# Altium integrated library Teensy3.0.IntLib: 11 symbols
Pins are listed as number, name and electrical type; pins without a type are passive.

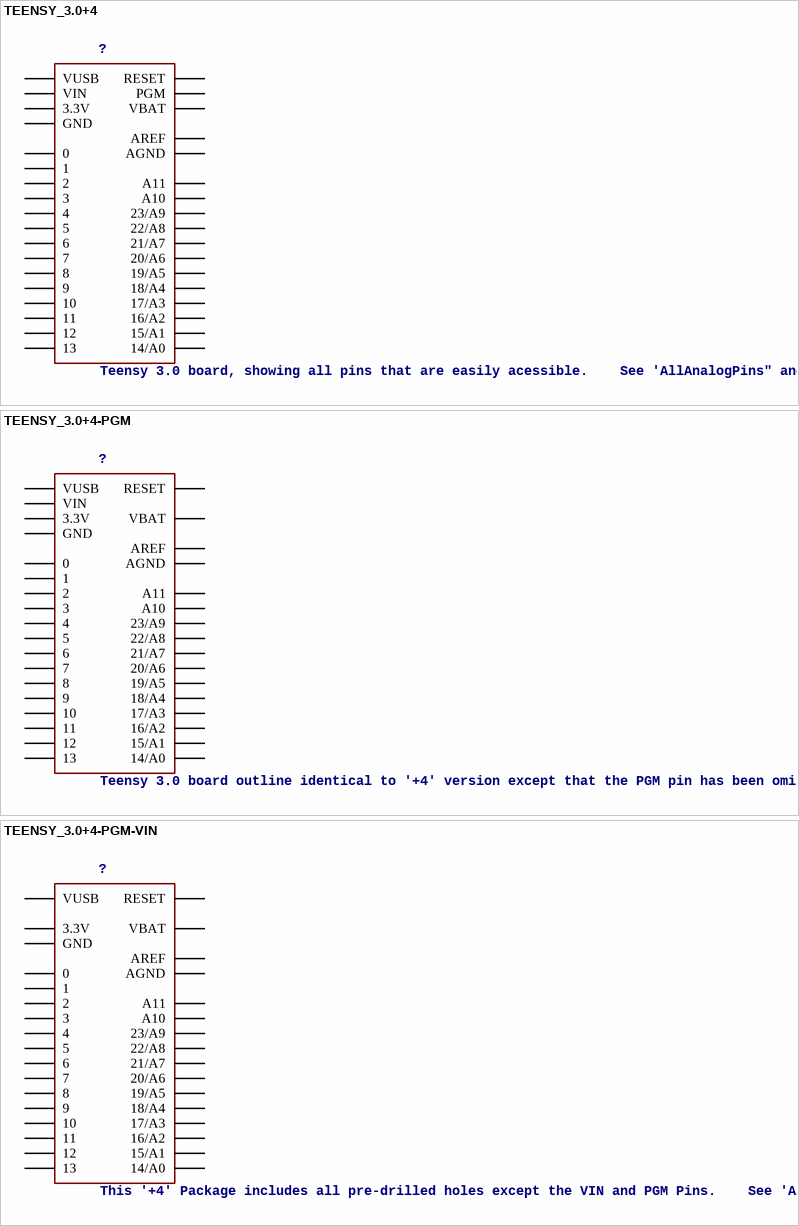
[diagram p0: symbols TEENSY_3.0+4 to TEENSY_3.0+4-PGM-VIN]

## TEENSY_3.0+4
designator ?, comment Teensy 3.0 board, showing all pins that are easily acessible.    See 'AllAnalogPins" and 'AllPins' packages for additional pin holes, as needed.   The 'Basic' package has fewer pins.
footprint TEENSY_3.0+4
pins: 0, 1, 2, 3, 3.3V 3.3V1 3.3V (power), 4, 5, 6, 7, 8, 9, 10, 11, 12, 13, 14/A0, 15/A1, 16/A2, 17/A3, 18/A4, 19/A5, 20/A6, 21/A7, 22/A8, 23/A9, A10, A11, AGND (power), AREF (power), GND GND1 GND (power), PGM, RESET, VBAT (power), VIN (power), VUSB (power)

## TEENSY_3.0+4-PGM
designator ?, comment Teensy 3.0 board outline identical to '+4' version except that the PGM pin has been omitted.   See 'AllAnalogPins" and 'AllPins' packages for additional pin holes, as needed.   The 'Basic' package has fewer pins
footprint TEENSY_3.0+4-PGM
pins: 0, 1, 2, 3, 3.3V 3.3V1 3.3V (power), 4, 5, 6, 7, 8, 9, 10, 11, 12, 13, 14/A0, 15/A1, 16/A2, 17/A3, 18/A4, 19/A5, 20/A6, 21/A7, 22/A8, 23/A9, A10, A11, AGND (power), AREF (power), GND GND1 GND (power), RESET, VBAT (power), VIN (power), VUSB (power)

## TEENSY_3.0+4-PGM-VIN
designator ?, comment This '+4' Package includes all pre-drilled holes except the VIN and PGM Pins.    See 'AllAnalogPins" and 'AllPins' packages for additional pin holes, as needed.   The 'Basic' package has fewer pins.
footprint TEENSY_3.0+4-PGM-VIN
pins: 0, 1, 2, 3, 3.3V 3.3V1 3.3V (power), 4, 5, 6, 7, 8, 9, 10, 11, 12, 13, 14/A0, 15/A1, 16/A2, 17/A3, 18/A4, 19/A5, 20/A6, 21/A7, 22/A8, 23/A9, A10, A11, AGND (power), AREF (power), GND GND1 GND (power), RESET, VBAT (power), VUSB (power)

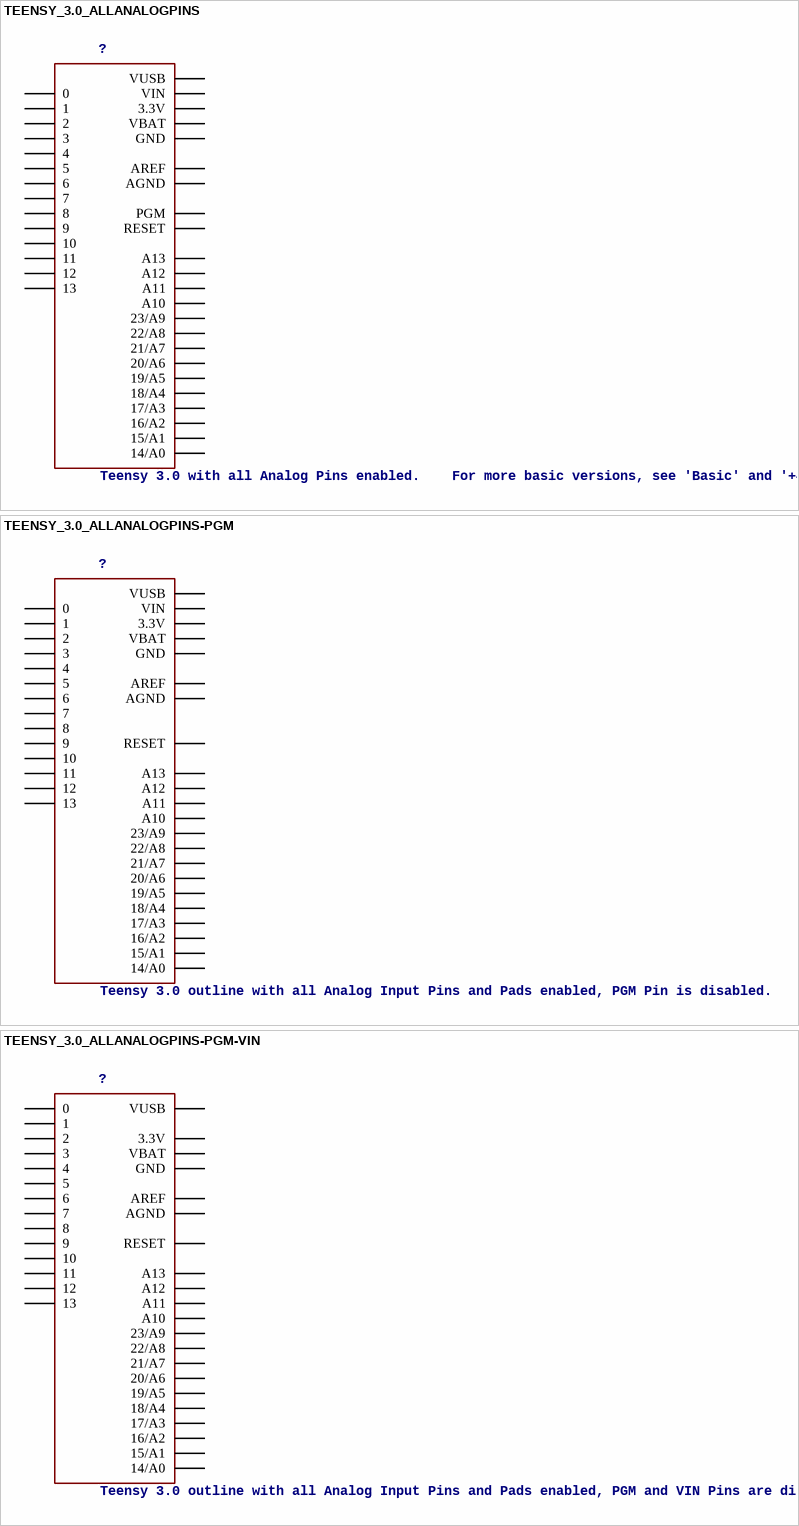
[diagram p1: symbols TEENSY_3.0_ALLANALOGPINS to TEENSY_3.0_ALLANALOGPINS-PGM-VIN]

## TEENSY_3.0_ALLANALOGPINS
designator ?, comment Teensy 3.0 with all Analog Pins enabled.    For more basic versions, see 'Basic' and '+4' while more pins are accessible in the 'AllPins' package. Requires the installation of a un-shrouded SMD header on the underside of the Teensy 3.0
footprint TEENSY_3.0_ALLANALOG
pins: 0, 1, 2, 3, 3.3V 3.3V1 3.3V2 3.3V (power), 4, 5, 6, 7, 8, 9, 10, 11, 12, 13, 14/A0, 15/A1, 16/A2, 17/A3, 18/A4, 19/A5, 20/A6, 21/A7, 22/A8, 23/A9, A10, A11, A12, A13, AGND (power), AREF (power), GND GND1 GND2 GND (power), PGM (power), RST RESET (power), VBAT (power), VIN (power), VUSB (power)

## TEENSY_3.0_ALLANALOGPINS-PGM
designator ?, comment Teensy 3.0 outline with all Analog Input Pins and Pads enabled, PGM Pin is disabled.   For more basic versions, see 'Basic' and '+4' while more pins are accessible in the 'AllPins' package.    Requires the installation of a un-shrouded SMD header on the underside of the Teensy 3.0
footprint TEENSY_3.0_ALLANALOG-PGM
pins: 0, 1, 2, 3, 3.3V 3.3V1 3.3V2 3.3V (power), 4, 5, 6, 7, 8, 9, 10, 11, 12, 13, 14/A0, 15/A1, 16/A2, 17/A3, 18/A4, 19/A5, 20/A6, 21/A7, 22/A8, 23/A9, A10, A11, A12, A13, AGND (power), AREF (power), GND GND1 GND2 GND (power), RST RESET (power), VBAT (power), VIN (power), VUSB (power)

## TEENSY_3.0_ALLANALOGPINS-PGM-VIN
designator ?, comment Teensy 3.0 outline with all Analog Input Pins and Pads enabled, PGM and VIN Pins are disabled.    For more basic versions, see 'Basic' and '+4' while more pins are accessible in the 'AllPins' package.   Requires the installation of a un-shrouded SMD header on the underside of the Teensy 3.0
footprint TEENSY_3.0_ALLANALOG-PGM-VIN
pins: 0, 1, 2, 3, 3.3V 3.3V1 3.3V2 3.3V (power), 4, 5, 6, 7, 8, 9, 10, 11, 12, 13, 14/A0, 15/A1, 16/A2, 17/A3, 18/A4, 19/A5, 20/A6, 21/A7, 22/A8, 23/A9, A10, A11, A12, A13, AGND (power), AREF (power), GND GND1 GND2 GND (power), RST RESET (power), VBAT (power), VUSB (power)

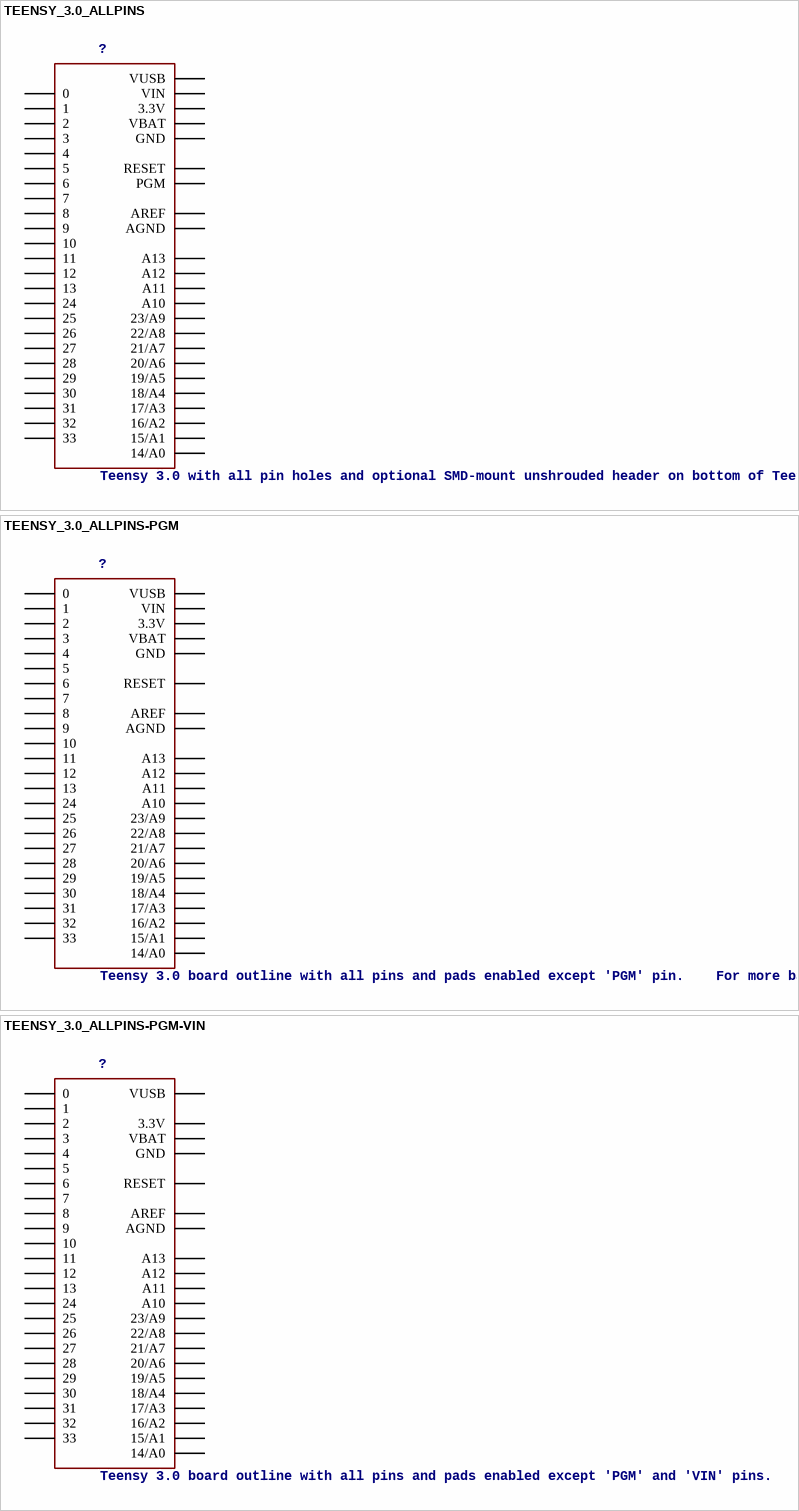
[diagram p2: symbols TEENSY_3.0_ALLPINS to TEENSY_3.0_ALLPINS-PGM-VIN]

## TEENSY_3.0_ALLPINS
designator ?, comment Teensy 3.0 with all pin holes and optional SMD-mount unshrouded header on bottom of Teensy 3.0.    For more basic versions, see 'Basic', '+4' and 'AllAnalogPins'.   Requires the installation of a un-shrouded SMD header on the underside of the Teensy 3.0
footprint TEENSY_3.0_ALLPINS
pins: 0, 1, 2, 3, 3.3V 3.3V1 3.3V2 3.3V (power), 4, 5, 6, 7, 8, 9, 10, 11, 12, 13, 14/A0, 15/A1, 16/A2, 17/A3, 18/A4, 19/A5, 20/A6, 21/A7, 22/A8, 23/A9, 24, 25, 26, 27, 28, 29, 30, 31, 32, 33, A10, A11, A12, A13, AGND (power), AREF (power), GND GND1 GND2 GND (power), PGM, RESET, VBAT (power), VIN (power), VUSB (power)

## TEENSY_3.0_ALLPINS-PGM
designator ?, comment Teensy 3.0 board outline with all pins and pads enabled except 'PGM' pin.    For more basic versions, see 'Basic', '+4', and 'AllAnalogPins'.   Requires the installation of a un-shrouded SMD header on the underside of the Teensy 3.0
footprint TEENSY_3.0_ALLPINS-PGM
pins: 0, 1, 2, 3, 3.3V 3.3V1 3.3V2 3.3V (power), 4, 5, 6, 7, 8, 9, 10, 11, 12, 13, 14/A0, 15/A1, 16/A2, 17/A3, 18/A4, 19/A5, 20/A6, 21/A7, 22/A8, 23/A9, 24, 25, 26, 27, 28, 29, 30, 31, 32, 33, A10, A11, A12, A13, AGND (power), AREF (power), GND GND1 GND2 GND (power), RST RESET, VBAT (power), VIN (power), VUSB (power)

## TEENSY_3.0_ALLPINS-PGM-VIN
designator ?, comment Teensy 3.0 board outline with all pins and pads enabled except 'PGM' and 'VIN' pins.    For more basic versions, see 'Basic', '+4', and 'AllAnalogPins'.   Requires the installation of a un-shrouded SMD header on the underside of the Teensy 3.0
footprint TEENSY_3.0_ALLPINS-PGM-VIN
pins: 0, 1, 2, 3, 3.3V 3.3V1 3.3V2 3.3V (power), 4, 5, 6, 7, 8, 9, 10, 11, 12, 13, 14/A0, 15/A1, 16/A2, 17/A3, 18/A4, 19/A5, 20/A6, 21/A7, 22/A8, 23/A9, 24, 25, 26, 27, 28, 29, 30, 31, 32, 33, A10, A11, A12, A13, AGND (power), AREF (power), GND GND1 GND2 GND (power), RST RESET, VBAT (power), VUSB (power)

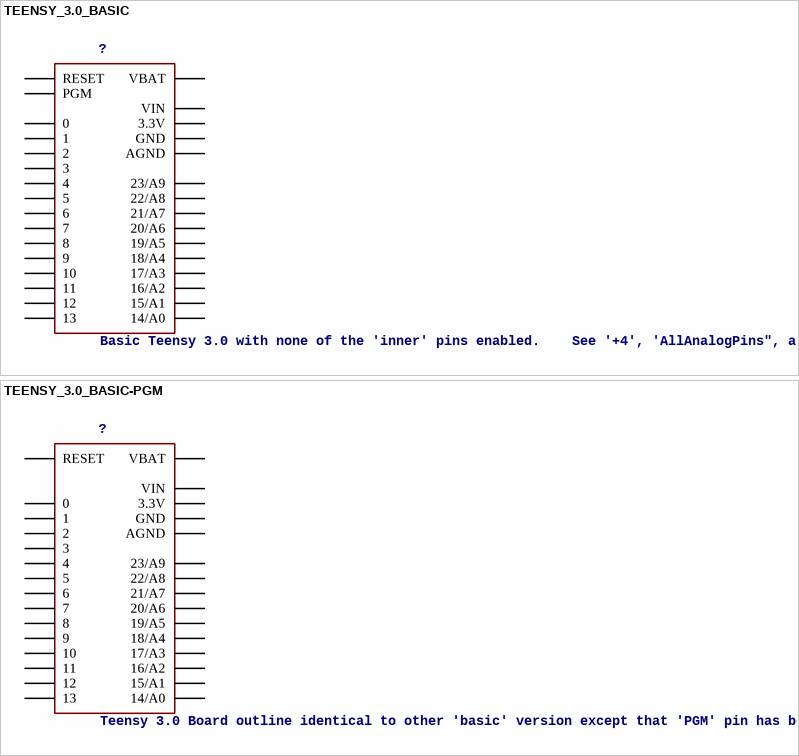
[diagram p3: symbols TEENSY_3.0_BASIC to TEENSY_3.0_BASIC-PGM]

## TEENSY_3.0_BASIC
designator ?, comment Basic Teensy 3.0 with none of the 'inner' pins enabled.    See '+4', 'AllAnalogPins", and 'AllPins' packages for additional pin holes, as needed.
footprint TEENSY_3.0_BASIC
pins: 0, 1, 2, 3, 3.3V 3.3V1 3.3V (power), 4, 5, 6, 7, 8, 9, 10, 11, 12, 13, 14/A0, 15/A1, 16/A2, 17/A3, 18/A4, 19/A5, 20/A6, 21/A7, 22/A8, 23/A9, AGND (power), GND GND1 GND (power), PGM, RESET, VBAT (power), VIN (power)

## TEENSY_3.0_BASIC-PGM
designator ?, comment Teensy 3.0 Board outline identical to other 'basic' version except that 'PGM' pin has been omitted.    See '+4', 'AllAnalogPins", and 'AllPins' packages for additional pin holes, as needed.
footprint TEENSY_3.0_BASIC-PGM
pins: 0, 1, 2, 3, 3.3V 3.3V1 3.3V (power), 4, 5, 6, 7, 8, 9, 10, 11, 12, 13, 14/A0, 15/A1, 16/A2, 17/A3, 18/A4, 19/A5, 20/A6, 21/A7, 22/A8, 23/A9, AGND (power), GND GND1 GND (power), RESET, VBAT (power), VIN (power)